# EAGLE library part 0813-1X1T-57-F (library HokyoParts)
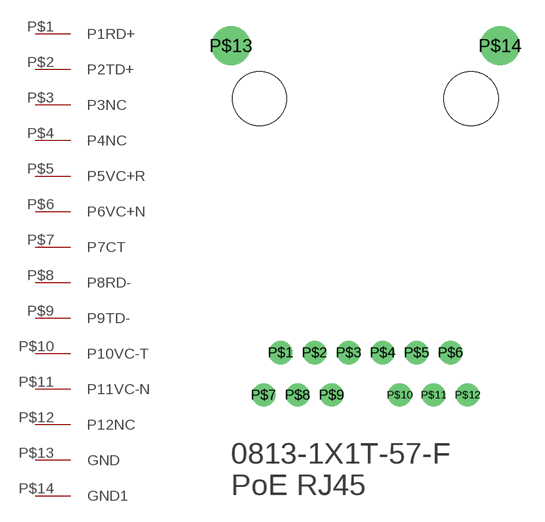
[diagram p3: symbol with the pads of 0813-1X1T-57-F; footprint 0813-1X1T-57-F]

Designator prefix -

## 0813-1X1T-57-F  [0813-1X1T-57-F]
P$1  P1RD+
P$2  P2TD+
P$3  P3NC
P$4  P4NC
P$5  P5VC+R
P$6  P6VC+N
P$7  P7CT
P$8  P8RD-
P$9  P9TD-
P$10  P10VC-T
P$11  P11VC-N
P$12  P12NC
P$13  GND
P$14  GND1

## Footprint 0813-1X1T-57-F (pad centres in mm)
drill 0.89: P$1 2.98,-18.42; P$2 5.02,-18.42; P$3 7.06,-18.42; P$4 9.1,-18.42; P$5 11.14,-18.42; P$6 13.18,-18.42; P$7 1.96,-20.96; P$8 4,-20.96; P$9 6.04,-20.96; P$10 10.12,-20.96; P$11 12.16,-20.96; P$12 14.2,-20.96
drill 1.57: P$13 0,0; P$14 16.15,0
hole 3.25 at 1.71,-3.18
hole 3.25 at 14.41,-3.18